# Altium integrated library Renesas Diode.IntLib: 1609 symbols (part 12 of 31)
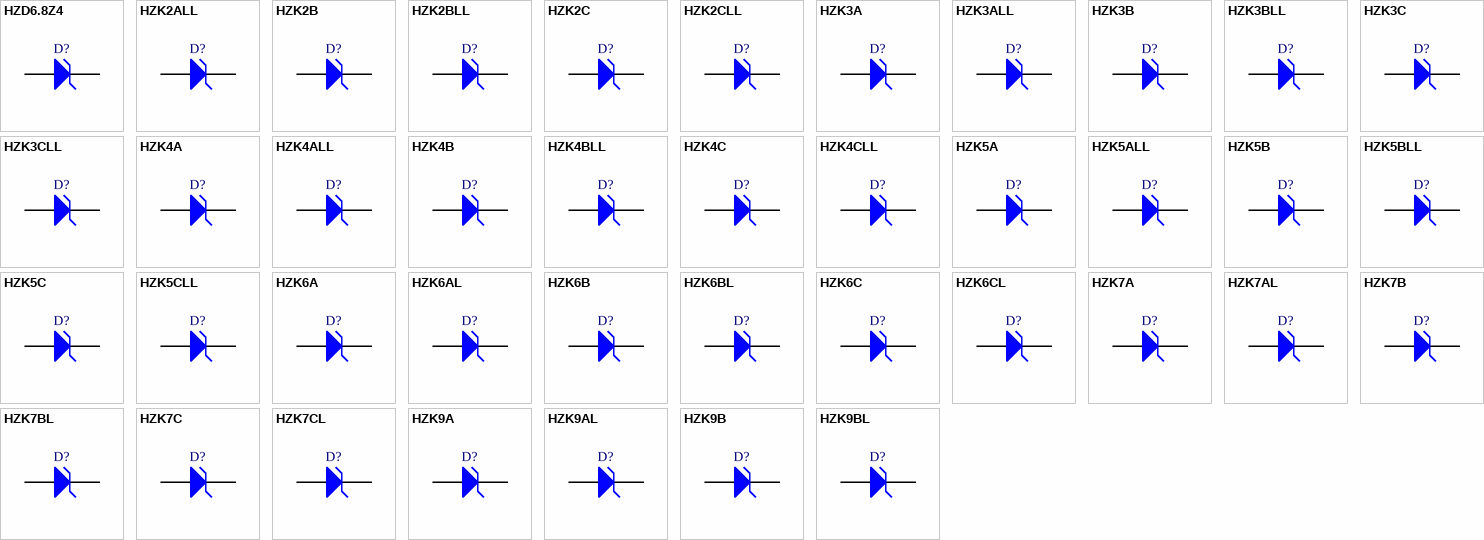
[diagram p56: symbols HZD6.8Z4 to HZK9BL]

## HZK9AL
designator D?
Silicon Epitaxial Planar Zener Diodes for Stabilized Power Supply; Published: 12-Feb-2010; DatasheetVersion: Rev.3.00, May-2003; PackageVersion: Aug-2005; PackageReference: GLZZ0002ZA-A; Publisher: Altium Limited; PackageDescription: Metal Electrode Face (MELF) Diode; Body 3.5 x 1.35 mm (LxDia); ComponentLink1Description: Manufacturer Link; ComponentLink1URL: http://sg.renesas.com/fmwk.jsp?cnt=diode_landing.jsp&fp=/products/discrete/diodes/; ComponentLink2Description: Datasheet; ComponentLink2URL: http://documentation.renesas.com/eng/products/diode/rej03g0019_hzk_l.pdf; ComponentLink3Description: Packaging Specification; ComponentLink3URL: http://sg.renesas.com/media/products/common_info/package/pdf/diode/code/glzz0002za_a.pdf
footprint GLZZ0002ZA-A (Metal Electrode Face (MELF) Diode; Body 3.5 x 1.35 mm (LxDia))
signal-integrity model HZK9AL
pins: 1 K, 2 A

## HZK9B
designator D?
Silicon Epitaxial Planar Zener Diodes for Stabilized Power Supply; Published: 12-Feb-2010; DatasheetVersion: Rev.3.00, May-2003; PackageVersion: Aug-2005; PackageReference: GLZZ0002ZA-A; Publisher: Altium Limited; PackageDescription: Metal Electrode Face (MELF) Diode; Body 3.5 x 1.35 mm (LxDia); ComponentLink1Description: Manufacturer Link; ComponentLink1URL: http://sg.renesas.com/fmwk.jsp?cnt=diode_landing.jsp&fp=/products/discrete/diodes/; ComponentLink2Description: Datasheet; ComponentLink2URL: http://documentation.renesas.com/eng/products/diode/rej03g0018_hzk.pdf; ComponentLink3Description: Packaging Specification; ComponentLink3URL: http://sg.renesas.com/media/products/common_info/package/pdf/diode/code/glzz0002za_a.pdf
footprint GLZZ0002ZA-A (Metal Electrode Face (MELF) Diode; Body 3.5 x 1.35 mm (LxDia))
signal-integrity model HZK9B
pins: 1 K, 2 A

## HZK9BL
designator D?
Silicon Epitaxial Planar Zener Diodes for Stabilized Power Supply; Published: 12-Feb-2010; DatasheetVersion: Rev.3.00, May-2003; PackageVersion: Aug-2005; PackageReference: GLZZ0002ZA-A; Publisher: Altium Limited; PackageDescription: Metal Electrode Face (MELF) Diode; Body 3.5 x 1.35 mm (LxDia); ComponentLink1Description: Manufacturer Link; ComponentLink1URL: http://sg.renesas.com/fmwk.jsp?cnt=diode_landing.jsp&fp=/products/discrete/diodes/; ComponentLink2Description: Datasheet; ComponentLink2URL: http://documentation.renesas.com/eng/products/diode/rej03g0019_hzk_l.pdf; ComponentLink3Description: Packaging Specification; ComponentLink3URL: http://sg.renesas.com/media/products/common_info/package/pdf/diode/code/glzz0002za_a.pdf
footprint GLZZ0002ZA-A (Metal Electrode Face (MELF) Diode; Body 3.5 x 1.35 mm (LxDia))
signal-integrity model HZK9BL
pins: 1 K, 2 A

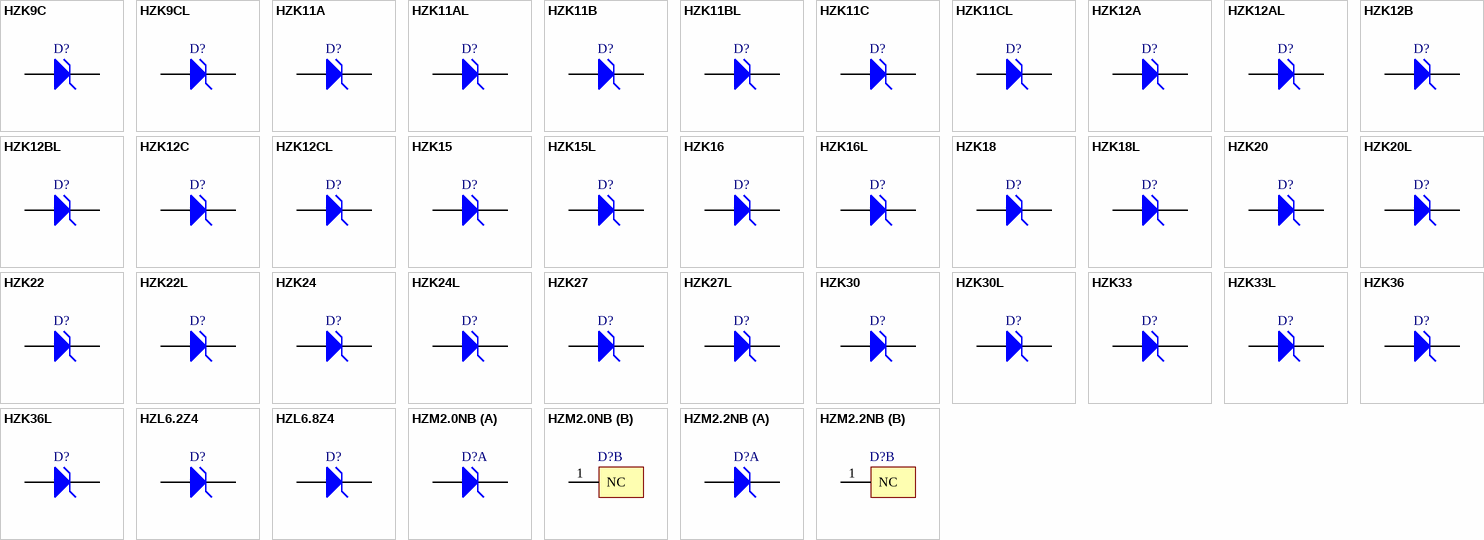
[diagram p15: symbols HZK9C to HZM2.2NB]

## HZK9C
designator D?
Silicon Epitaxial Planar Zener Diodes for Stabilized Power Supply; Published: 12-Feb-2010; DatasheetVersion: Rev.3.00, May-2003; PackageVersion: Aug-2005; PackageReference: GLZZ0002ZA-A; Publisher: Altium Limited; PackageDescription: Metal Electrode Face (MELF) Diode; Body 3.5 x 1.35 mm (LxDia); ComponentLink1Description: Manufacturer Link; ComponentLink1URL: http://sg.renesas.com/fmwk.jsp?cnt=diode_landing.jsp&fp=/products/discrete/diodes/; ComponentLink2Description: Datasheet; ComponentLink2URL: http://documentation.renesas.com/eng/products/diode/rej03g0018_hzk.pdf; ComponentLink3Description: Packaging Specification; ComponentLink3URL: http://sg.renesas.com/media/products/common_info/package/pdf/diode/code/glzz0002za_a.pdf
footprint GLZZ0002ZA-A (Metal Electrode Face (MELF) Diode; Body 3.5 x 1.35 mm (LxDia))
signal-integrity model HZK9C
pins: 1 K, 2 A

## HZK9CL
designator D?
Silicon Epitaxial Planar Zener Diodes for Stabilized Power Supply; Published: 12-Feb-2010; DatasheetVersion: Rev.3.00, May-2003; PackageVersion: Aug-2005; PackageReference: GLZZ0002ZA-A; Publisher: Altium Limited; PackageDescription: Metal Electrode Face (MELF) Diode; Body 3.5 x 1.35 mm (LxDia); ComponentLink1Description: Manufacturer Link; ComponentLink1URL: http://sg.renesas.com/fmwk.jsp?cnt=diode_landing.jsp&fp=/products/discrete/diodes/; ComponentLink2Description: Datasheet; ComponentLink2URL: http://documentation.renesas.com/eng/products/diode/rej03g0019_hzk_l.pdf; ComponentLink3Description: Packaging Specification; ComponentLink3URL: http://sg.renesas.com/media/products/common_info/package/pdf/diode/code/glzz0002za_a.pdf
footprint GLZZ0002ZA-A (Metal Electrode Face (MELF) Diode; Body 3.5 x 1.35 mm (LxDia))
signal-integrity model HZK9CL
pins: 1 K, 2 A

## HZK11A
designator D?
Silicon Epitaxial Planar Zener Diodes for Stabilized Power Supply; Published: 12-Feb-2010; DatasheetVersion: Rev.3.00, May-2003; PackageVersion: Aug-2005; PackageReference: GLZZ0002ZA-A; Publisher: Altium Limited; PackageDescription: Metal Electrode Face (MELF) Diode; Body 3.5 x 1.35 mm (LxDia); ComponentLink1Description: Manufacturer Link; ComponentLink1URL: http://sg.renesas.com/fmwk.jsp?cnt=diode_landing.jsp&fp=/products/discrete/diodes/; ComponentLink2Description: Datasheet; ComponentLink2URL: http://documentation.renesas.com/eng/products/diode/rej03g0018_hzk.pdf; ComponentLink3Description: Packaging Specification; ComponentLink3URL: http://sg.renesas.com/media/products/common_info/package/pdf/diode/code/glzz0002za_a.pdf
footprint GLZZ0002ZA-A (Metal Electrode Face (MELF) Diode; Body 3.5 x 1.35 mm (LxDia))
signal-integrity model HZK11A
pins: 1 K, 2 A

## HZK11AL
designator D?
Silicon Epitaxial Planar Zener Diodes for Stabilized Power Supply; Published: 12-Feb-2010; DatasheetVersion: Rev.3.00, May-2003; PackageVersion: Aug-2005; PackageReference: GLZZ0002ZA-A; Publisher: Altium Limited; PackageDescription: Metal Electrode Face (MELF) Diode; Body 3.5 x 1.35 mm (LxDia); ComponentLink1Description: Manufacturer Link; ComponentLink1URL: http://sg.renesas.com/fmwk.jsp?cnt=diode_landing.jsp&fp=/products/discrete/diodes/; ComponentLink2Description: Datasheet; ComponentLink2URL: http://documentation.renesas.com/eng/products/diode/rej03g0019_hzk_l.pdf; ComponentLink3Description: Packaging Specification; ComponentLink3URL: http://sg.renesas.com/media/products/common_info/package/pdf/diode/code/glzz0002za_a.pdf
footprint GLZZ0002ZA-A (Metal Electrode Face (MELF) Diode; Body 3.5 x 1.35 mm (LxDia))
signal-integrity model HZK11AL
pins: 1 K, 2 A

## HZK11B
designator D?
Silicon Epitaxial Planar Zener Diodes for Stabilized Power Supply; Published: 12-Feb-2010; DatasheetVersion: Rev.3.00, May-2003; PackageVersion: Aug-2005; PackageReference: GLZZ0002ZA-A; Publisher: Altium Limited; PackageDescription: Metal Electrode Face (MELF) Diode; Body 3.5 x 1.35 mm (LxDia); ComponentLink1Description: Manufacturer Link; ComponentLink1URL: http://sg.renesas.com/fmwk.jsp?cnt=diode_landing.jsp&fp=/products/discrete/diodes/; ComponentLink2Description: Datasheet; ComponentLink2URL: http://documentation.renesas.com/eng/products/diode/rej03g0018_hzk.pdf; ComponentLink3Description: Packaging Specification; ComponentLink3URL: http://sg.renesas.com/media/products/common_info/package/pdf/diode/code/glzz0002za_a.pdf
footprint GLZZ0002ZA-A (Metal Electrode Face (MELF) Diode; Body 3.5 x 1.35 mm (LxDia))
signal-integrity model HZK11B
pins: 1 K, 2 A

## HZK11BL
designator D?
Silicon Epitaxial Planar Zener Diodes for Stabilized Power Supply; Published: 12-Feb-2010; DatasheetVersion: Rev.3.00, May-2003; PackageVersion: Aug-2005; PackageReference: GLZZ0002ZA-A; Publisher: Altium Limited; PackageDescription: Metal Electrode Face (MELF) Diode; Body 3.5 x 1.35 mm (LxDia); ComponentLink1Description: Manufacturer Link; ComponentLink1URL: http://sg.renesas.com/fmwk.jsp?cnt=diode_landing.jsp&fp=/products/discrete/diodes/; ComponentLink2Description: Datasheet; ComponentLink2URL: http://documentation.renesas.com/eng/products/diode/rej03g0019_hzk_l.pdf; ComponentLink3Description: Packaging Specification; ComponentLink3URL: http://sg.renesas.com/media/products/common_info/package/pdf/diode/code/glzz0002za_a.pdf
footprint GLZZ0002ZA-A (Metal Electrode Face (MELF) Diode; Body 3.5 x 1.35 mm (LxDia))
signal-integrity model HZK11BL
pins: 1 K, 2 A

## HZK11C
designator D?
Silicon Epitaxial Planar Zener Diodes for Stabilized Power Supply; Published: 12-Feb-2010; DatasheetVersion: Rev.3.00, May-2003; PackageVersion: Aug-2005; PackageReference: GLZZ0002ZA-A; Publisher: Altium Limited; PackageDescription: Metal Electrode Face (MELF) Diode; Body 3.5 x 1.35 mm (LxDia); ComponentLink1Description: Manufacturer Link; ComponentLink1URL: http://sg.renesas.com/fmwk.jsp?cnt=diode_landing.jsp&fp=/products/discrete/diodes/; ComponentLink2Description: Datasheet; ComponentLink2URL: http://documentation.renesas.com/eng/products/diode/rej03g0018_hzk.pdf; ComponentLink3Description: Packaging Specification; ComponentLink3URL: http://sg.renesas.com/media/products/common_info/package/pdf/diode/code/glzz0002za_a.pdf
footprint GLZZ0002ZA-A (Metal Electrode Face (MELF) Diode; Body 3.5 x 1.35 mm (LxDia))
signal-integrity model HZK11C
pins: 1 K, 2 A

## HZK11CL
designator D?
Silicon Epitaxial Planar Zener Diodes for Stabilized Power Supply; Published: 12-Feb-2010; DatasheetVersion: Rev.3.00, May-2003; PackageVersion: Aug-2005; PackageReference: GLZZ0002ZA-A; Publisher: Altium Limited; PackageDescription: Metal Electrode Face (MELF) Diode; Body 3.5 x 1.35 mm (LxDia); ComponentLink1Description: Manufacturer Link; ComponentLink1URL: http://sg.renesas.com/fmwk.jsp?cnt=diode_landing.jsp&fp=/products/discrete/diodes/; ComponentLink2Description: Datasheet; ComponentLink2URL: http://documentation.renesas.com/eng/products/diode/rej03g0019_hzk_l.pdf; ComponentLink3Description: Packaging Specification; ComponentLink3URL: http://sg.renesas.com/media/products/common_info/package/pdf/diode/code/glzz0002za_a.pdf
footprint GLZZ0002ZA-A (Metal Electrode Face (MELF) Diode; Body 3.5 x 1.35 mm (LxDia))
signal-integrity model HZK11CL
pins: 1 K, 2 A

## HZK12A
designator D?
Silicon Epitaxial Planar Zener Diodes for Stabilized Power Supply; Published: 12-Feb-2010; DatasheetVersion: Rev.3.00, May-2003; PackageVersion: Aug-2005; PackageReference: GLZZ0002ZA-A; Publisher: Altium Limited; PackageDescription: Metal Electrode Face (MELF) Diode; Body 3.5 x 1.35 mm (LxDia); ComponentLink1Description: Manufacturer Link; ComponentLink1URL: http://sg.renesas.com/fmwk.jsp?cnt=diode_landing.jsp&fp=/products/discrete/diodes/; ComponentLink2Description: Datasheet; ComponentLink2URL: http://documentation.renesas.com/eng/products/diode/rej03g0018_hzk.pdf; ComponentLink3Description: Packaging Specification; ComponentLink3URL: http://sg.renesas.com/media/products/common_info/package/pdf/diode/code/glzz0002za_a.pdf
footprint GLZZ0002ZA-A (Metal Electrode Face (MELF) Diode; Body 3.5 x 1.35 mm (LxDia))
signal-integrity model HZK12A
pins: 1 K, 2 A

## HZK12AL
designator D?
Silicon Epitaxial Planar Zener Diodes for Stabilized Power Supply; Published: 12-Feb-2010; DatasheetVersion: Rev.3.00, May-2003; PackageVersion: Aug-2005; PackageReference: GLZZ0002ZA-A; Publisher: Altium Limited; PackageDescription: Metal Electrode Face (MELF) Diode; Body 3.5 x 1.35 mm (LxDia); ComponentLink1Description: Manufacturer Link; ComponentLink1URL: http://sg.renesas.com/fmwk.jsp?cnt=diode_landing.jsp&fp=/products/discrete/diodes/; ComponentLink2Description: Datasheet; ComponentLink2URL: http://documentation.renesas.com/eng/products/diode/rej03g0019_hzk_l.pdf; ComponentLink3Description: Packaging Specification; ComponentLink3URL: http://sg.renesas.com/media/products/common_info/package/pdf/diode/code/glzz0002za_a.pdf
footprint GLZZ0002ZA-A (Metal Electrode Face (MELF) Diode; Body 3.5 x 1.35 mm (LxDia))
signal-integrity model HZK12AL
pins: 1 K, 2 A

## HZK12B
designator D?
Silicon Epitaxial Planar Zener Diodes for Stabilized Power Supply; Published: 12-Feb-2010; DatasheetVersion: Rev.3.00, May-2003; PackageVersion: Aug-2005; PackageReference: GLZZ0002ZA-A; Publisher: Altium Limited; PackageDescription: Metal Electrode Face (MELF) Diode; Body 3.5 x 1.35 mm (LxDia); ComponentLink1Description: Manufacturer Link; ComponentLink1URL: http://sg.renesas.com/fmwk.jsp?cnt=diode_landing.jsp&fp=/products/discrete/diodes/; ComponentLink2Description: Datasheet; ComponentLink2URL: http://documentation.renesas.com/eng/products/diode/rej03g0018_hzk.pdf; ComponentLink3Description: Packaging Specification; ComponentLink3URL: http://sg.renesas.com/media/products/common_info/package/pdf/diode/code/glzz0002za_a.pdf
footprint GLZZ0002ZA-A (Metal Electrode Face (MELF) Diode; Body 3.5 x 1.35 mm (LxDia))
signal-integrity model HZK12B
pins: 1 K, 2 A

## HZK12BL
designator D?
Silicon Epitaxial Planar Zener Diodes for Stabilized Power Supply; Published: 12-Feb-2010; DatasheetVersion: Rev.3.00, May-2003; PackageVersion: Aug-2005; PackageReference: GLZZ0002ZA-A; Publisher: Altium Limited; PackageDescription: Metal Electrode Face (MELF) Diode; Body 3.5 x 1.35 mm (LxDia); ComponentLink1Description: Manufacturer Link; ComponentLink1URL: http://sg.renesas.com/fmwk.jsp?cnt=diode_landing.jsp&fp=/products/discrete/diodes/; ComponentLink2Description: Datasheet; ComponentLink2URL: http://documentation.renesas.com/eng/products/diode/rej03g0019_hzk_l.pdf; ComponentLink3Description: Packaging Specification; ComponentLink3URL: http://sg.renesas.com/media/products/common_info/package/pdf/diode/code/glzz0002za_a.pdf
footprint GLZZ0002ZA-A (Metal Electrode Face (MELF) Diode; Body 3.5 x 1.35 mm (LxDia))
signal-integrity model HZK12BL
pins: 1 K, 2 A

## HZK12C
designator D?
Silicon Epitaxial Planar Zener Diodes for Stabilized Power Supply; Published: 12-Feb-2010; DatasheetVersion: Rev.3.00, May-2003; PackageVersion: Aug-2005; PackageReference: GLZZ0002ZA-A; Publisher: Altium Limited; PackageDescription: Metal Electrode Face (MELF) Diode; Body 3.5 x 1.35 mm (LxDia); ComponentLink1Description: Manufacturer Link; ComponentLink1URL: http://sg.renesas.com/fmwk.jsp?cnt=diode_landing.jsp&fp=/products/discrete/diodes/; ComponentLink2Description: Datasheet; ComponentLink2URL: http://documentation.renesas.com/eng/products/diode/rej03g0018_hzk.pdf; ComponentLink3Description: Packaging Specification; ComponentLink3URL: http://sg.renesas.com/media/products/common_info/package/pdf/diode/code/glzz0002za_a.pdf
footprint GLZZ0002ZA-A (Metal Electrode Face (MELF) Diode; Body 3.5 x 1.35 mm (LxDia))
signal-integrity model HZK12C
pins: 1 K, 2 A

## HZK12CL
designator D?
Silicon Epitaxial Planar Zener Diodes for Stabilized Power Supply; Published: 12-Feb-2010; DatasheetVersion: Rev.3.00, May-2003; PackageVersion: Aug-2005; PackageReference: GLZZ0002ZA-A; Publisher: Altium Limited; PackageDescription: Metal Electrode Face (MELF) Diode; Body 3.5 x 1.35 mm (LxDia); ComponentLink1Description: Manufacturer Link; ComponentLink1URL: http://sg.renesas.com/fmwk.jsp?cnt=diode_landing.jsp&fp=/products/discrete/diodes/; ComponentLink2Description: Datasheet; ComponentLink2URL: http://documentation.renesas.com/eng/products/diode/rej03g0019_hzk_l.pdf; ComponentLink3Description: Packaging Specification; ComponentLink3URL: http://sg.renesas.com/media/products/common_info/package/pdf/diode/code/glzz0002za_a.pdf
footprint GLZZ0002ZA-A (Metal Electrode Face (MELF) Diode; Body 3.5 x 1.35 mm (LxDia))
signal-integrity model HZK12CL
pins: 1 K, 2 A

## HZK15
designator D?
Silicon Epitaxial Planar Zener Diodes for Stabilized Power Supply; Published: 12-Feb-2010; DatasheetVersion: Rev.3.00, May-2003; PackageVersion: Aug-2005; PackageReference: GLZZ0002ZA-A; Publisher: Altium Limited; PackageDescription: Metal Electrode Face (MELF) Diode; Body 3.5 x 1.35 mm (LxDia); ComponentLink1Description: Manufacturer Link; ComponentLink1URL: http://sg.renesas.com/fmwk.jsp?cnt=diode_landing.jsp&fp=/products/discrete/diodes/; ComponentLink2Description: Datasheet; ComponentLink2URL: http://documentation.renesas.com/eng/products/diode/rej03g0018_hzk.pdf; ComponentLink3Description: Packaging Specification; ComponentLink3URL: http://sg.renesas.com/media/products/common_info/package/pdf/diode/code/glzz0002za_a.pdf
footprint GLZZ0002ZA-A (Metal Electrode Face (MELF) Diode; Body 3.5 x 1.35 mm (LxDia))
signal-integrity model HZK15
pins: 1 K, 2 A

## HZK15L
designator D?
Silicon Epitaxial Planar Zener Diodes for Stabilized Power Supply; Published: 12-Feb-2010; DatasheetVersion: Rev.3.00, May-2003; PackageVersion: Aug-2005; PackageReference: GLZZ0002ZA-A; Publisher: Altium Limited; PackageDescription: Metal Electrode Face (MELF) Diode; Body 3.5 x 1.35 mm (LxDia); ComponentLink1Description: Manufacturer Link; ComponentLink1URL: http://sg.renesas.com/fmwk.jsp?cnt=diode_landing.jsp&fp=/products/discrete/diodes/; ComponentLink2Description: Datasheet; ComponentLink2URL: http://documentation.renesas.com/eng/products/diode/rej03g0019_hzk_l.pdf; ComponentLink3Description: Packaging Specification; ComponentLink3URL: http://sg.renesas.com/media/products/common_info/package/pdf/diode/code/glzz0002za_a.pdf
footprint GLZZ0002ZA-A (Metal Electrode Face (MELF) Diode; Body 3.5 x 1.35 mm (LxDia))
signal-integrity model HZK15L
pins: 1 K, 2 A

## HZK16
designator D?
Silicon Epitaxial Planar Zener Diodes for Stabilized Power Supply; Published: 12-Feb-2010; DatasheetVersion: Rev.3.00, May-2003; PackageVersion: Aug-2005; PackageReference: GLZZ0002ZA-A; Publisher: Altium Limited; PackageDescription: Metal Electrode Face (MELF) Diode; Body 3.5 x 1.35 mm (LxDia); ComponentLink1Description: Manufacturer Link; ComponentLink1URL: http://sg.renesas.com/fmwk.jsp?cnt=diode_landing.jsp&fp=/products/discrete/diodes/; ComponentLink2Description: Datasheet; ComponentLink2URL: http://documentation.renesas.com/eng/products/diode/rej03g0018_hzk.pdf; ComponentLink3Description: Packaging Specification; ComponentLink3URL: http://sg.renesas.com/media/products/common_info/package/pdf/diode/code/glzz0002za_a.pdf
footprint GLZZ0002ZA-A (Metal Electrode Face (MELF) Diode; Body 3.5 x 1.35 mm (LxDia))
signal-integrity model HZK16
pins: 1 K, 2 A

## HZK16L
designator D?
Silicon Epitaxial Planar Zener Diodes for Stabilized Power Supply; Published: 12-Feb-2010; DatasheetVersion: Rev.3.00, May-2003; PackageVersion: Aug-2005; PackageReference: GLZZ0002ZA-A; Publisher: Altium Limited; PackageDescription: Metal Electrode Face (MELF) Diode; Body 3.5 x 1.35 mm (LxDia); ComponentLink1Description: Manufacturer Link; ComponentLink1URL: http://sg.renesas.com/fmwk.jsp?cnt=diode_landing.jsp&fp=/products/discrete/diodes/; ComponentLink2Description: Datasheet; ComponentLink2URL: http://documentation.renesas.com/eng/products/diode/rej03g0019_hzk_l.pdf; ComponentLink3Description: Packaging Specification; ComponentLink3URL: http://sg.renesas.com/media/products/common_info/package/pdf/diode/code/glzz0002za_a.pdf
footprint GLZZ0002ZA-A (Metal Electrode Face (MELF) Diode; Body 3.5 x 1.35 mm (LxDia))
signal-integrity model HZK16L
pins: 1 K, 2 A

## HZK18
designator D?
Silicon Epitaxial Planar Zener Diodes for Stabilized Power Supply; Published: 12-Feb-2010; DatasheetVersion: Rev.3.00, May-2003; PackageVersion: Aug-2005; PackageReference: GLZZ0002ZA-A; Publisher: Altium Limited; PackageDescription: Metal Electrode Face (MELF) Diode; Body 3.5 x 1.35 mm (LxDia); ComponentLink1Description: Manufacturer Link; ComponentLink1URL: http://sg.renesas.com/fmwk.jsp?cnt=diode_landing.jsp&fp=/products/discrete/diodes/; ComponentLink2Description: Datasheet; ComponentLink2URL: http://documentation.renesas.com/eng/products/diode/rej03g0018_hzk.pdf; ComponentLink3Description: Packaging Specification; ComponentLink3URL: http://sg.renesas.com/media/products/common_info/package/pdf/diode/code/glzz0002za_a.pdf
footprint GLZZ0002ZA-A (Metal Electrode Face (MELF) Diode; Body 3.5 x 1.35 mm (LxDia))
signal-integrity model HZK18
pins: 1 K, 2 A

## HZK18L
designator D?
Silicon Epitaxial Planar Zener Diodes for Stabilized Power Supply; Published: 12-Feb-2010; DatasheetVersion: Rev.3.00, May-2003; PackageVersion: Aug-2005; PackageReference: GLZZ0002ZA-A; Publisher: Altium Limited; PackageDescription: Metal Electrode Face (MELF) Diode; Body 3.5 x 1.35 mm (LxDia); ComponentLink1Description: Manufacturer Link; ComponentLink1URL: http://sg.renesas.com/fmwk.jsp?cnt=diode_landing.jsp&fp=/products/discrete/diodes/; ComponentLink2Description: Datasheet; ComponentLink2URL: http://documentation.renesas.com/eng/products/diode/rej03g0019_hzk_l.pdf; ComponentLink3Description: Packaging Specification; ComponentLink3URL: http://sg.renesas.com/media/products/common_info/package/pdf/diode/code/glzz0002za_a.pdf
footprint GLZZ0002ZA-A (Metal Electrode Face (MELF) Diode; Body 3.5 x 1.35 mm (LxDia))
signal-integrity model HZK18L
pins: 1 K, 2 A

## HZK20
designator D?
Silicon Epitaxial Planar Zener Diodes for Stabilized Power Supply; Published: 12-Feb-2010; DatasheetVersion: Rev.3.00, May-2003; PackageVersion: Aug-2005; PackageReference: GLZZ0002ZA-A; Publisher: Altium Limited; PackageDescription: Metal Electrode Face (MELF) Diode; Body 3.5 x 1.35 mm (LxDia); ComponentLink1Description: Manufacturer Link; ComponentLink1URL: http://sg.renesas.com/fmwk.jsp?cnt=diode_landing.jsp&fp=/products/discrete/diodes/; ComponentLink2Description: Datasheet; ComponentLink2URL: http://documentation.renesas.com/eng/products/diode/rej03g0018_hzk.pdf; ComponentLink3Description: Packaging Specification; ComponentLink3URL: http://sg.renesas.com/media/products/common_info/package/pdf/diode/code/glzz0002za_a.pdf
footprint GLZZ0002ZA-A (Metal Electrode Face (MELF) Diode; Body 3.5 x 1.35 mm (LxDia))
signal-integrity model HZK20
pins: 1 K, 2 A

## HZK20L
designator D?
Silicon Epitaxial Planar Zener Diodes for Stabilized Power Supply; Published: 12-Feb-2010; DatasheetVersion: Rev.3.00, May-2003; PackageVersion: Aug-2005; PackageReference: GLZZ0002ZA-A; Publisher: Altium Limited; PackageDescription: Metal Electrode Face (MELF) Diode; Body 3.5 x 1.35 mm (LxDia); ComponentLink1Description: Manufacturer Link; ComponentLink1URL: http://sg.renesas.com/fmwk.jsp?cnt=diode_landing.jsp&fp=/products/discrete/diodes/; ComponentLink2Description: Datasheet; ComponentLink2URL: http://documentation.renesas.com/eng/products/diode/rej03g0019_hzk_l.pdf; ComponentLink3Description: Packaging Specification; ComponentLink3URL: http://sg.renesas.com/media/products/common_info/package/pdf/diode/code/glzz0002za_a.pdf
footprint GLZZ0002ZA-A (Metal Electrode Face (MELF) Diode; Body 3.5 x 1.35 mm (LxDia))
signal-integrity model HZK20L
pins: 1 K, 2 A

## HZK22
designator D?
Silicon Epitaxial Planar Zener Diodes for Stabilized Power Supply; Published: 12-Feb-2010; DatasheetVersion: Rev.3.00, May-2003; PackageVersion: Aug-2005; PackageReference: GLZZ0002ZA-A; Publisher: Altium Limited; PackageDescription: Metal Electrode Face (MELF) Diode; Body 3.5 x 1.35 mm (LxDia); ComponentLink1Description: Manufacturer Link; ComponentLink1URL: http://sg.renesas.com/fmwk.jsp?cnt=diode_landing.jsp&fp=/products/discrete/diodes/; ComponentLink2Description: Datasheet; ComponentLink2URL: http://documentation.renesas.com/eng/products/diode/rej03g0018_hzk.pdf; ComponentLink3Description: Packaging Specification; ComponentLink3URL: http://sg.renesas.com/media/products/common_info/package/pdf/diode/code/glzz0002za_a.pdf
footprint GLZZ0002ZA-A (Metal Electrode Face (MELF) Diode; Body 3.5 x 1.35 mm (LxDia))
signal-integrity model HZK22
pins: 1 K, 2 A

## HZK22L
designator D?
Silicon Epitaxial Planar Zener Diodes for Stabilized Power Supply; Published: 12-Feb-2010; DatasheetVersion: Rev.3.00, May-2003; PackageVersion: Aug-2005; PackageReference: GLZZ0002ZA-A; Publisher: Altium Limited; PackageDescription: Metal Electrode Face (MELF) Diode; Body 3.5 x 1.35 mm (LxDia); ComponentLink1Description: Manufacturer Link; ComponentLink1URL: http://sg.renesas.com/fmwk.jsp?cnt=diode_landing.jsp&fp=/products/discrete/diodes/; ComponentLink2Description: Datasheet; ComponentLink2URL: http://documentation.renesas.com/eng/products/diode/rej03g0019_hzk_l.pdf; ComponentLink3Description: Packaging Specification; ComponentLink3URL: http://sg.renesas.com/media/products/common_info/package/pdf/diode/code/glzz0002za_a.pdf
footprint GLZZ0002ZA-A (Metal Electrode Face (MELF) Diode; Body 3.5 x 1.35 mm (LxDia))
signal-integrity model HZK22L
pins: 1 K, 2 A

## HZK24
designator D?
Silicon Epitaxial Planar Zener Diodes for Stabilized Power Supply; Published: 12-Feb-2010; DatasheetVersion: Rev.3.00, May-2003; PackageVersion: Aug-2005; PackageReference: GLZZ0002ZA-A; Publisher: Altium Limited; PackageDescription: Metal Electrode Face (MELF) Diode; Body 3.5 x 1.35 mm (LxDia); ComponentLink1Description: Manufacturer Link; ComponentLink1URL: http://sg.renesas.com/fmwk.jsp?cnt=diode_landing.jsp&fp=/products/discrete/diodes/; ComponentLink2Description: Datasheet; ComponentLink2URL: http://documentation.renesas.com/eng/products/diode/rej03g0018_hzk.pdf; ComponentLink3Description: Packaging Specification; ComponentLink3URL: http://sg.renesas.com/media/products/common_info/package/pdf/diode/code/glzz0002za_a.pdf
footprint GLZZ0002ZA-A (Metal Electrode Face (MELF) Diode; Body 3.5 x 1.35 mm (LxDia))
signal-integrity model HZK24
pins: 1 K, 2 A

## HZK24L
designator D?
Silicon Epitaxial Planar Zener Diodes for Stabilized Power Supply; Published: 12-Feb-2010; DatasheetVersion: Rev.3.00, May-2003; PackageVersion: Aug-2005; PackageReference: GLZZ0002ZA-A; Publisher: Altium Limited; PackageDescription: Metal Electrode Face (MELF) Diode; Body 3.5 x 1.35 mm (LxDia); ComponentLink1Description: Manufacturer Link; ComponentLink1URL: http://sg.renesas.com/fmwk.jsp?cnt=diode_landing.jsp&fp=/products/discrete/diodes/; ComponentLink2Description: Datasheet; ComponentLink2URL: http://documentation.renesas.com/eng/products/diode/rej03g0019_hzk_l.pdf; ComponentLink3Description: Packaging Specification; ComponentLink3URL: http://sg.renesas.com/media/products/common_info/package/pdf/diode/code/glzz0002za_a.pdf
footprint GLZZ0002ZA-A (Metal Electrode Face (MELF) Diode; Body 3.5 x 1.35 mm (LxDia))
signal-integrity model HZK24L
pins: 1 K, 2 A

## HZK27
designator D?
Silicon Epitaxial Planar Zener Diodes for Stabilized Power Supply; Published: 12-Feb-2010; DatasheetVersion: Rev.3.00, May-2003; PackageVersion: Aug-2005; PackageReference: GLZZ0002ZA-A; Publisher: Altium Limited; PackageDescription: Metal Electrode Face (MELF) Diode; Body 3.5 x 1.35 mm (LxDia); ComponentLink1Description: Manufacturer Link; ComponentLink1URL: http://sg.renesas.com/fmwk.jsp?cnt=diode_landing.jsp&fp=/products/discrete/diodes/; ComponentLink2Description: Datasheet; ComponentLink2URL: http://documentation.renesas.com/eng/products/diode/rej03g0018_hzk.pdf; ComponentLink3Description: Packaging Specification; ComponentLink3URL: http://sg.renesas.com/media/products/common_info/package/pdf/diode/code/glzz0002za_a.pdf
footprint GLZZ0002ZA-A (Metal Electrode Face (MELF) Diode; Body 3.5 x 1.35 mm (LxDia))
signal-integrity model HZK27
pins: 1 K, 2 A

## HZK27L
designator D?
Silicon Epitaxial Planar Zener Diodes for Stabilized Power Supply; Published: 12-Feb-2010; DatasheetVersion: Rev.3.00, May-2003; PackageVersion: Aug-2005; PackageReference: GLZZ0002ZA-A; Publisher: Altium Limited; PackageDescription: Metal Electrode Face (MELF) Diode; Body 3.5 x 1.35 mm (LxDia); ComponentLink1Description: Manufacturer Link; ComponentLink1URL: http://sg.renesas.com/fmwk.jsp?cnt=diode_landing.jsp&fp=/products/discrete/diodes/; ComponentLink2Description: Datasheet; ComponentLink2URL: http://documentation.renesas.com/eng/products/diode/rej03g0019_hzk_l.pdf; ComponentLink3Description: Packaging Specification; ComponentLink3URL: http://sg.renesas.com/media/products/common_info/package/pdf/diode/code/glzz0002za_a.pdf
footprint GLZZ0002ZA-A (Metal Electrode Face (MELF) Diode; Body 3.5 x 1.35 mm (LxDia))
signal-integrity model HZK27L
pins: 1 K, 2 A

## HZK30
designator D?
Silicon Epitaxial Planar Zener Diodes for Stabilized Power Supply; Published: 12-Feb-2010; DatasheetVersion: Rev.3.00, May-2003; PackageVersion: Aug-2005; PackageReference: GLZZ0002ZA-A; Publisher: Altium Limited; PackageDescription: Metal Electrode Face (MELF) Diode; Body 3.5 x 1.35 mm (LxDia); ComponentLink1Description: Manufacturer Link; ComponentLink1URL: http://sg.renesas.com/fmwk.jsp?cnt=diode_landing.jsp&fp=/products/discrete/diodes/; ComponentLink2Description: Datasheet; ComponentLink2URL: http://documentation.renesas.com/eng/products/diode/rej03g0018_hzk.pdf; ComponentLink3Description: Packaging Specification; ComponentLink3URL: http://sg.renesas.com/media/products/common_info/package/pdf/diode/code/glzz0002za_a.pdf
footprint GLZZ0002ZA-A (Metal Electrode Face (MELF) Diode; Body 3.5 x 1.35 mm (LxDia))
signal-integrity model HZK30
pins: 1 K, 2 A

## HZK30L
designator D?
Silicon Epitaxial Planar Zener Diodes for Stabilized Power Supply; Published: 12-Feb-2010; DatasheetVersion: Rev.3.00, May-2003; PackageVersion: Aug-2005; PackageReference: GLZZ0002ZA-A; Publisher: Altium Limited; PackageDescription: Metal Electrode Face (MELF) Diode; Body 3.5 x 1.35 mm (LxDia); ComponentLink1Description: Manufacturer Link; ComponentLink1URL: http://sg.renesas.com/fmwk.jsp?cnt=diode_landing.jsp&fp=/products/discrete/diodes/; ComponentLink2Description: Datasheet; ComponentLink2URL: http://documentation.renesas.com/eng/products/diode/rej03g0019_hzk_l.pdf; ComponentLink3Description: Packaging Specification; ComponentLink3URL: http://sg.renesas.com/media/products/common_info/package/pdf/diode/code/glzz0002za_a.pdf
footprint GLZZ0002ZA-A (Metal Electrode Face (MELF) Diode; Body 3.5 x 1.35 mm (LxDia))
signal-integrity model HZK30L
pins: 1 K, 2 A

## HZK33
designator D?
Silicon Epitaxial Planar Zener Diodes for Stabilized Power Supply; Published: 12-Feb-2010; DatasheetVersion: Rev.3.00, May-2003; PackageVersion: Aug-2005; PackageReference: GLZZ0002ZA-A; Publisher: Altium Limited; PackageDescription: Metal Electrode Face (MELF) Diode; Body 3.5 x 1.35 mm (LxDia); ComponentLink1Description: Manufacturer Link; ComponentLink1URL: http://sg.renesas.com/fmwk.jsp?cnt=diode_landing.jsp&fp=/products/discrete/diodes/; ComponentLink2Description: Datasheet; ComponentLink2URL: http://documentation.renesas.com/eng/products/diode/rej03g0018_hzk.pdf; ComponentLink3Description: Packaging Specification; ComponentLink3URL: http://sg.renesas.com/media/products/common_info/package/pdf/diode/code/glzz0002za_a.pdf
footprint GLZZ0002ZA-A (Metal Electrode Face (MELF) Diode; Body 3.5 x 1.35 mm (LxDia))
signal-integrity model HZK33
pins: 1 K, 2 A

## HZK33L
designator D?
Silicon Epitaxial Planar Zener Diodes for Stabilized Power Supply; Published: 12-Feb-2010; DatasheetVersion: Rev.3.00, May-2003; PackageVersion: Aug-2005; PackageReference: GLZZ0002ZA-A; Publisher: Altium Limited; PackageDescription: Metal Electrode Face (MELF) Diode; Body 3.5 x 1.35 mm (LxDia); ComponentLink1Description: Manufacturer Link; ComponentLink1URL: http://sg.renesas.com/fmwk.jsp?cnt=diode_landing.jsp&fp=/products/discrete/diodes/; ComponentLink2Description: Datasheet; ComponentLink2URL: http://documentation.renesas.com/eng/products/diode/rej03g0019_hzk_l.pdf; ComponentLink3Description: Packaging Specification; ComponentLink3URL: http://sg.renesas.com/media/products/common_info/package/pdf/diode/code/glzz0002za_a.pdf
footprint GLZZ0002ZA-A (Metal Electrode Face (MELF) Diode; Body 3.5 x 1.35 mm (LxDia))
signal-integrity model HZK33L
pins: 1 K, 2 A

## HZK36
designator D?
Silicon Epitaxial Planar Zener Diodes for Stabilized Power Supply; Published: 12-Feb-2010; DatasheetVersion: Rev.3.00, May-2003; PackageVersion: Aug-2005; PackageReference: GLZZ0002ZA-A; Publisher: Altium Limited; PackageDescription: Metal Electrode Face (MELF) Diode; Body 3.5 x 1.35 mm (LxDia); ComponentLink1Description: Manufacturer Link; ComponentLink1URL: http://sg.renesas.com/fmwk.jsp?cnt=diode_landing.jsp&fp=/products/discrete/diodes/; ComponentLink2Description: Datasheet; ComponentLink2URL: http://documentation.renesas.com/eng/products/diode/rej03g0018_hzk.pdf; ComponentLink3Description: Packaging Specification; ComponentLink3URL: http://sg.renesas.com/media/products/common_info/package/pdf/diode/code/glzz0002za_a.pdf
footprint GLZZ0002ZA-A (Metal Electrode Face (MELF) Diode; Body 3.5 x 1.35 mm (LxDia))
signal-integrity model HZK36
pins: 1 K, 2 A

## HZK36L
designator D?
Silicon Epitaxial Planar Zener Diodes for Stabilized Power Supply; Published: 12-Feb-2010; DatasheetVersion: Rev.3.00, May-2003; PackageVersion: Aug-2005; PackageReference: GLZZ0002ZA-A; Publisher: Altium Limited; PackageDescription: Metal Electrode Face (MELF) Diode; Body 3.5 x 1.35 mm (LxDia); ComponentLink1Description: Manufacturer Link; ComponentLink1URL: http://sg.renesas.com/fmwk.jsp?cnt=diode_landing.jsp&fp=/products/discrete/diodes/; ComponentLink2Description: Datasheet; ComponentLink2URL: http://documentation.renesas.com/eng/products/diode/rej03g0019_hzk_l.pdf; ComponentLink3Description: Packaging Specification; ComponentLink3URL: http://sg.renesas.com/media/products/common_info/package/pdf/diode/code/glzz0002za_a.pdf
footprint GLZZ0002ZA-A (Metal Electrode Face (MELF) Diode; Body 3.5 x 1.35 mm (LxDia))
signal-integrity model HZK36L
pins: 1 K, 2 A

## HZL6.2Z4
designator D?
Silicon Planar Zener Diode for Surge Absorb; Published: 12-Feb-2010; DatasheetVersion: Rev.1.00, Oct-2004; PackageVersion: Oct-2006; PackageReference: PXSF0002ZA-A; Publisher: Altium Limited; PackageDescription: 2-Pin Plastic Small Outline Diode, Flat Leads, Body 0.6 x 0.8 mm (EFP); ComponentLink1Description: Manufacturer Link; ComponentLink1URL: http://sg.renesas.com/fmwk.jsp?cnt=diode_landing.jsp&fp=/products/discrete/diodes/; ComponentLink2Description: Datasheet; ComponentLink2URL: http://documentation.renesas.com/eng/products/diode/rej03g0409_hzl62z4.pdf; ComponentLink3Description: Packaging Specification; ComponentLink3URL: http://sg.renesas.com/media/products/common_info/package/pdf/diode/code/pxsf0002za_a.pdf
footprint PXSF0002ZA-A (SOD, 2-Flat Leads, Body 0.6x0.8x0.5mm, Renesas Recommended)
signal-integrity model HZL6.2Z4
pins: 1 K, 2 A

## HZL6.8Z4
designator D?
Silicon Planar Zener Diode for Surge Absorb; Published: 12-Feb-2010; DatasheetVersion: Rev.1.00, Oct-2004; PackageVersion: Oct-2006; PackageReference: PXSF0002ZA-A; Publisher: Altium Limited; PackageDescription: 2-Pin Plastic Small Outline Diode, Flat Leads, Body 0.6 x 0.8 mm (EFP); ComponentLink1Description: Manufacturer Link; ComponentLink1URL: http://sg.renesas.com/fmwk.jsp?cnt=diode_landing.jsp&fp=/products/discrete/diodes/; ComponentLink2Description: Datasheet; ComponentLink2URL: http://documentation.renesas.com/eng/products/diode/rej03g0410_hzl68z4.pdf; ComponentLink3Description: Packaging Specification; ComponentLink3URL: http://sg.renesas.com/media/products/common_info/package/pdf/diode/code/pxsf0002za_a.pdf
footprint PXSF0002ZA-A (SOD, 2-Flat Leads, Body 0.6x0.8x0.5mm, Renesas Recommended)
signal-integrity model HZL6.8Z4
pins: 1 K, 2 A

## HZM2.0NB
designator D?
Silicon Epitaxial Planar Zener Diode for Stabilizer; Published: 12-Feb-2010; DatasheetVersion: Rev.5.00, Dec-2004; PackageVersion: Aug-2005; PackageReference: PLSP0003ZC-A; Publisher: Altium Limited; PackageDescription: 3-Pin Plastic SOT-23 Package 0.95 mm Pitch, 2.8 mm Lead Span - Alternate Lead Configuration (MPAK); Code_JEITA: SC-59A; ComponentLink1Description: Manufacturer Link; ComponentLink1URL: http://sg.renesas.com/fmwk.jsp?cnt=diode_landing.jsp&fp=/products/discrete/diodes/; ComponentLink2Description: Datasheet; ComponentLink2URL: http://documentation.renesas.com/eng/products/diode/rej03g0483_hzm_n.pdf; ComponentLink3Description: Packaging Specification; ComponentLink3URL: http://sg.renesas.com/media/products/common_info/package/pdf/diode/code/plsp0003zc_a.pdf
footprint PLSP0003ZC-A_N (SOT23, 3-Leads, Body 2.9x1.5mm, Pitch 0.95mm, Lead Span 2.8mm - Alternate Lead Configuration, IPC Medium Density)
footprint PLSP0003ZC-A_L (SOT23, 3-Leads, Body 2.9x1.5mm, Pitch 0.95mm, Lead Span 2.8mm - Alternate Lead Configuration, IPC High Density)
footprint PLSP0003ZC-A_M (SOT23, 3-Leads, Body 2.9x1.5mm, Pitch 0.95mm, Lead Span 2.8mm - Alternate Lead Configuration, IPC Low Density)
signal-integrity model HZM2.0NB
part A pins: 2 A, 3 K
part B pins: 1 NC

## HZM2.2NB
designator D?
Silicon Epitaxial Planar Zener Diode for Stabilizer; Published: 12-Feb-2010; DatasheetVersion: Rev.5.00, Dec-2004; PackageVersion: Aug-2005; PackageReference: PLSP0003ZC-A; Publisher: Altium Limited; PackageDescription: 3-Pin Plastic SOT-23 Package 0.95 mm Pitch, 2.8 mm Lead Span - Alternate Lead Configuration (MPAK); Code_JEITA: SC-59A; ComponentLink1Description: Manufacturer Link; ComponentLink1URL: http://sg.renesas.com/fmwk.jsp?cnt=diode_landing.jsp&fp=/products/discrete/diodes/; ComponentLink2Description: Datasheet; ComponentLink2URL: http://documentation.renesas.com/eng/products/diode/rej03g0483_hzm_n.pdf; ComponentLink3Description: Packaging Specification; ComponentLink3URL: http://sg.renesas.com/media/products/common_info/package/pdf/diode/code/plsp0003zc_a.pdf
footprint PLSP0003ZC-A_N (SOT23, 3-Leads, Body 2.9x1.5mm, Pitch 0.95mm, Lead Span 2.8mm - Alternate Lead Configuration, IPC Medium Density)
footprint PLSP0003ZC-A_L (SOT23, 3-Leads, Body 2.9x1.5mm, Pitch 0.95mm, Lead Span 2.8mm - Alternate Lead Configuration, IPC High Density)
footprint PLSP0003ZC-A_M (SOT23, 3-Leads, Body 2.9x1.5mm, Pitch 0.95mm, Lead Span 2.8mm - Alternate Lead Configuration, IPC Low Density)
signal-integrity model HZM2.2NB
part A pins: 2 A, 3 K
part B pins: 1 NC

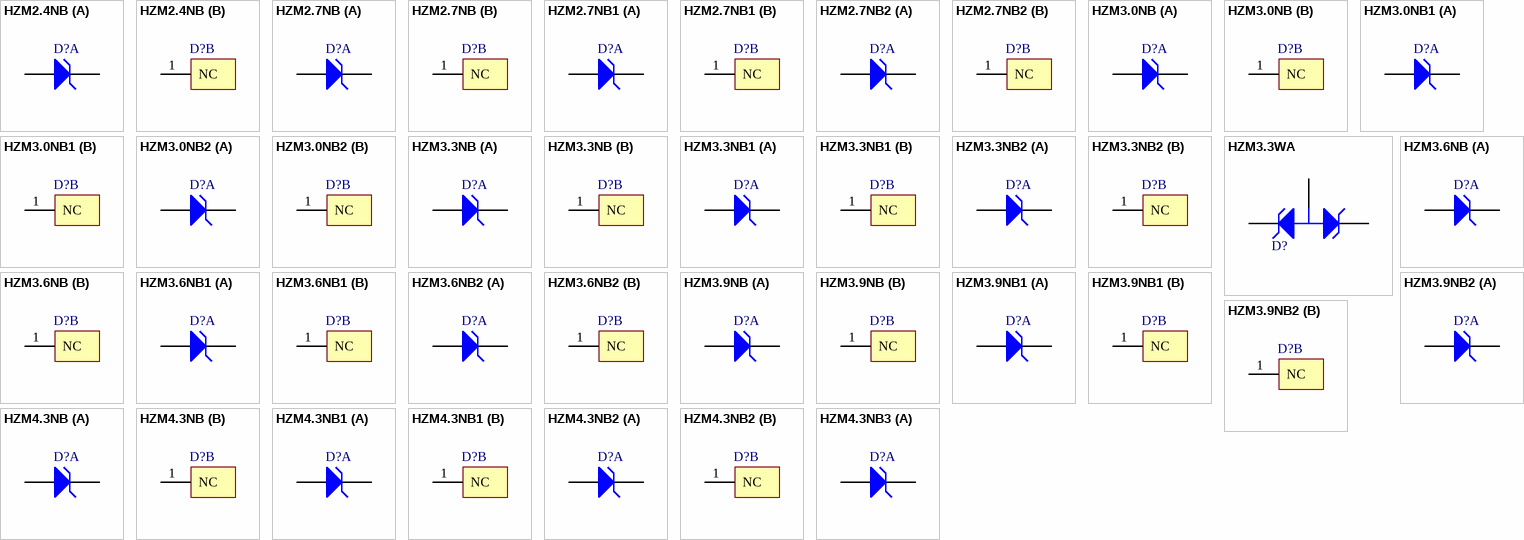
[diagram p16: symbols HZM2.4NB to HZM4.3NB3]

## HZM2.4NB
designator D?
Silicon Epitaxial Planar Zener Diode for Stabilizer; Published: 12-Feb-2010; DatasheetVersion: Rev.5.00, Dec-2004; PackageVersion: Aug-2005; PackageReference: PLSP0003ZC-A; Publisher: Altium Limited; PackageDescription: 3-Pin Plastic SOT-23 Package 0.95 mm Pitch, 2.8 mm Lead Span - Alternate Lead Configuration (MPAK); Code_JEITA: SC-59A; ComponentLink1Description: Manufacturer Link; ComponentLink1URL: http://sg.renesas.com/fmwk.jsp?cnt=diode_landing.jsp&fp=/products/discrete/diodes/; ComponentLink2Description: Datasheet; ComponentLink2URL: http://documentation.renesas.com/eng/products/diode/rej03g0483_hzm_n.pdf; ComponentLink3Description: Packaging Specification; ComponentLink3URL: http://sg.renesas.com/media/products/common_info/package/pdf/diode/code/plsp0003zc_a.pdf
footprint PLSP0003ZC-A_N (SOT23, 3-Leads, Body 2.9x1.5mm, Pitch 0.95mm, Lead Span 2.8mm - Alternate Lead Configuration, IPC Medium Density)
footprint PLSP0003ZC-A_L (SOT23, 3-Leads, Body 2.9x1.5mm, Pitch 0.95mm, Lead Span 2.8mm - Alternate Lead Configuration, IPC High Density)
footprint PLSP0003ZC-A_M (SOT23, 3-Leads, Body 2.9x1.5mm, Pitch 0.95mm, Lead Span 2.8mm - Alternate Lead Configuration, IPC Low Density)
signal-integrity model HZM2.4NB
part A pins: 2 A, 3 K
part B pins: 1 NC

## HZM2.7NB
designator D?
Silicon Epitaxial Planar Zener Diode for Stabilizer; Published: 12-Feb-2010; DatasheetVersion: Rev.5.00, Dec-2004; PackageVersion: Aug-2005; PackageReference: PLSP0003ZC-A; Publisher: Altium Limited; PackageDescription: 3-Pin Plastic SOT-23 Package 0.95 mm Pitch, 2.8 mm Lead Span - Alternate Lead Configuration (MPAK); Code_JEITA: SC-59A; ComponentLink1Description: Manufacturer Link; ComponentLink1URL: http://sg.renesas.com/fmwk.jsp?cnt=diode_landing.jsp&fp=/products/discrete/diodes/; ComponentLink2Description: Datasheet; ComponentLink2URL: http://documentation.renesas.com/eng/products/diode/rej03g0483_hzm_n.pdf; ComponentLink3Description: Packaging Specification; ComponentLink3URL: http://sg.renesas.com/media/products/common_info/package/pdf/diode/code/plsp0003zc_a.pdf
footprint PLSP0003ZC-A_N (SOT23, 3-Leads, Body 2.9x1.5mm, Pitch 0.95mm, Lead Span 2.8mm - Alternate Lead Configuration, IPC Medium Density)
footprint PLSP0003ZC-A_L (SOT23, 3-Leads, Body 2.9x1.5mm, Pitch 0.95mm, Lead Span 2.8mm - Alternate Lead Configuration, IPC High Density)
footprint PLSP0003ZC-A_M (SOT23, 3-Leads, Body 2.9x1.5mm, Pitch 0.95mm, Lead Span 2.8mm - Alternate Lead Configuration, IPC Low Density)
signal-integrity model HZM2.7NB
part A pins: 2 A, 3 K
part B pins: 1 NC

## HZM2.7NB1
designator D?
Silicon Epitaxial Planar Zener Diode for Stabilizer; Published: 12-Feb-2010; DatasheetVersion: Rev.5.00, Dec-2004; PackageVersion: Aug-2005; PackageReference: PLSP0003ZC-A; Publisher: Altium Limited; PackageDescription: 3-Pin Plastic SOT-23 Package 0.95 mm Pitch, 2.8 mm Lead Span - Alternate Lead Configuration (MPAK); Code_JEITA: SC-59A; ComponentLink1Description: Manufacturer Link; ComponentLink1URL: http://sg.renesas.com/fmwk.jsp?cnt=diode_landing.jsp&fp=/products/discrete/diodes/; ComponentLink2Description: Datasheet; ComponentLink2URL: http://documentation.renesas.com/eng/products/diode/rej03g0483_hzm_n.pdf; ComponentLink3Description: Packaging Specification; ComponentLink3URL: http://sg.renesas.com/media/products/common_info/package/pdf/diode/code/plsp0003zc_a.pdf
footprint PLSP0003ZC-A_N (SOT23, 3-Leads, Body 2.9x1.5mm, Pitch 0.95mm, Lead Span 2.8mm - Alternate Lead Configuration, IPC Medium Density)
footprint PLSP0003ZC-A_L (SOT23, 3-Leads, Body 2.9x1.5mm, Pitch 0.95mm, Lead Span 2.8mm - Alternate Lead Configuration, IPC High Density)
footprint PLSP0003ZC-A_M (SOT23, 3-Leads, Body 2.9x1.5mm, Pitch 0.95mm, Lead Span 2.8mm - Alternate Lead Configuration, IPC Low Density)
signal-integrity model HZM2.7NB1
part A pins: 2 A, 3 K
part B pins: 1 NC

## HZM2.7NB2
designator D?
Silicon Epitaxial Planar Zener Diode for Stabilizer; Published: 12-Feb-2010; DatasheetVersion: Rev.5.00, Dec-2004; PackageVersion: Aug-2005; PackageReference: PLSP0003ZC-A; Publisher: Altium Limited; PackageDescription: 3-Pin Plastic SOT-23 Package 0.95 mm Pitch, 2.8 mm Lead Span - Alternate Lead Configuration (MPAK); Code_JEITA: SC-59A; ComponentLink1Description: Manufacturer Link; ComponentLink1URL: http://sg.renesas.com/fmwk.jsp?cnt=diode_landing.jsp&fp=/products/discrete/diodes/; ComponentLink2Description: Datasheet; ComponentLink2URL: http://documentation.renesas.com/eng/products/diode/rej03g0483_hzm_n.pdf; ComponentLink3Description: Packaging Specification; ComponentLink3URL: http://sg.renesas.com/media/products/common_info/package/pdf/diode/code/plsp0003zc_a.pdf
footprint PLSP0003ZC-A_N (SOT23, 3-Leads, Body 2.9x1.5mm, Pitch 0.95mm, Lead Span 2.8mm - Alternate Lead Configuration, IPC Medium Density)
footprint PLSP0003ZC-A_L (SOT23, 3-Leads, Body 2.9x1.5mm, Pitch 0.95mm, Lead Span 2.8mm - Alternate Lead Configuration, IPC High Density)
footprint PLSP0003ZC-A_M (SOT23, 3-Leads, Body 2.9x1.5mm, Pitch 0.95mm, Lead Span 2.8mm - Alternate Lead Configuration, IPC Low Density)
signal-integrity model HZM2.7NB2
part A pins: 2 A, 3 K
part B pins: 1 NC

## HZM3.0NB
designator D?
Silicon Epitaxial Planar Zener Diode for Stabilizer; Published: 12-Feb-2010; DatasheetVersion: Rev.5.00, Dec-2004; PackageVersion: Aug-2005; PackageReference: PLSP0003ZC-A; Publisher: Altium Limited; PackageDescription: 3-Pin Plastic SOT-23 Package 0.95 mm Pitch, 2.8 mm Lead Span - Alternate Lead Configuration (MPAK); Code_JEITA: SC-59A; ComponentLink1Description: Manufacturer Link; ComponentLink1URL: http://sg.renesas.com/fmwk.jsp?cnt=diode_landing.jsp&fp=/products/discrete/diodes/; ComponentLink2Description: Datasheet; ComponentLink2URL: http://documentation.renesas.com/eng/products/diode/rej03g0483_hzm_n.pdf; ComponentLink3Description: Packaging Specification; ComponentLink3URL: http://sg.renesas.com/media/products/common_info/package/pdf/diode/code/plsp0003zc_a.pdf
footprint PLSP0003ZC-A_N (SOT23, 3-Leads, Body 2.9x1.5mm, Pitch 0.95mm, Lead Span 2.8mm - Alternate Lead Configuration, IPC Medium Density)
footprint PLSP0003ZC-A_L (SOT23, 3-Leads, Body 2.9x1.5mm, Pitch 0.95mm, Lead Span 2.8mm - Alternate Lead Configuration, IPC High Density)
footprint PLSP0003ZC-A_M (SOT23, 3-Leads, Body 2.9x1.5mm, Pitch 0.95mm, Lead Span 2.8mm - Alternate Lead Configuration, IPC Low Density)
signal-integrity model HZM3.0NB
part A pins: 2 A, 3 K
part B pins: 1 NC

## HZM3.0NB1
designator D?
Silicon Epitaxial Planar Zener Diode for Stabilizer; Published: 12-Feb-2010; DatasheetVersion: Rev.5.00, Dec-2004; PackageVersion: Aug-2005; PackageReference: PLSP0003ZC-A; Publisher: Altium Limited; PackageDescription: 3-Pin Plastic SOT-23 Package 0.95 mm Pitch, 2.8 mm Lead Span - Alternate Lead Configuration (MPAK); Code_JEITA: SC-59A; ComponentLink1Description: Manufacturer Link; ComponentLink1URL: http://sg.renesas.com/fmwk.jsp?cnt=diode_landing.jsp&fp=/products/discrete/diodes/; ComponentLink2Description: Datasheet; ComponentLink2URL: http://documentation.renesas.com/eng/products/diode/rej03g0483_hzm_n.pdf; ComponentLink3Description: Packaging Specification; ComponentLink3URL: http://sg.renesas.com/media/products/common_info/package/pdf/diode/code/plsp0003zc_a.pdf
footprint PLSP0003ZC-A_N (SOT23, 3-Leads, Body 2.9x1.5mm, Pitch 0.95mm, Lead Span 2.8mm - Alternate Lead Configuration, IPC Medium Density)
footprint PLSP0003ZC-A_L (SOT23, 3-Leads, Body 2.9x1.5mm, Pitch 0.95mm, Lead Span 2.8mm - Alternate Lead Configuration, IPC High Density)
footprint PLSP0003ZC-A_M (SOT23, 3-Leads, Body 2.9x1.5mm, Pitch 0.95mm, Lead Span 2.8mm - Alternate Lead Configuration, IPC Low Density)
signal-integrity model HZM3.0NB1
part A pins: 2 A, 3 K
part B pins: 1 NC

## HZM3.0NB2
designator D?
Silicon Epitaxial Planar Zener Diode for Stabilizer; Published: 12-Feb-2010; DatasheetVersion: Rev.5.00, Dec-2004; PackageVersion: Aug-2005; PackageReference: PLSP0003ZC-A; Publisher: Altium Limited; PackageDescription: 3-Pin Plastic SOT-23 Package 0.95 mm Pitch, 2.8 mm Lead Span - Alternate Lead Configuration (MPAK); Code_JEITA: SC-59A; ComponentLink1Description: Manufacturer Link; ComponentLink1URL: http://sg.renesas.com/fmwk.jsp?cnt=diode_landing.jsp&fp=/products/discrete/diodes/; ComponentLink2Description: Datasheet; ComponentLink2URL: http://documentation.renesas.com/eng/products/diode/rej03g0483_hzm_n.pdf; ComponentLink3Description: Packaging Specification; ComponentLink3URL: http://sg.renesas.com/media/products/common_info/package/pdf/diode/code/plsp0003zc_a.pdf
footprint PLSP0003ZC-A_N (SOT23, 3-Leads, Body 2.9x1.5mm, Pitch 0.95mm, Lead Span 2.8mm - Alternate Lead Configuration, IPC Medium Density)
footprint PLSP0003ZC-A_L (SOT23, 3-Leads, Body 2.9x1.5mm, Pitch 0.95mm, Lead Span 2.8mm - Alternate Lead Configuration, IPC High Density)
footprint PLSP0003ZC-A_M (SOT23, 3-Leads, Body 2.9x1.5mm, Pitch 0.95mm, Lead Span 2.8mm - Alternate Lead Configuration, IPC Low Density)
signal-integrity model HZM3.0NB2
part A pins: 2 A, 3 K
part B pins: 1 NC

## HZM3.3NB
designator D?
Silicon Epitaxial Planar Zener Diode for Stabilizer; Published: 12-Feb-2010; DatasheetVersion: Rev.5.00, Dec-2004; PackageVersion: Aug-2005; PackageReference: PLSP0003ZC-A; Publisher: Altium Limited; PackageDescription: 3-Pin Plastic SOT-23 Package 0.95 mm Pitch, 2.8 mm Lead Span - Alternate Lead Configuration (MPAK); Code_JEITA: SC-59A; ComponentLink1Description: Manufacturer Link; ComponentLink1URL: http://sg.renesas.com/fmwk.jsp?cnt=diode_landing.jsp&fp=/products/discrete/diodes/; ComponentLink2Description: Datasheet; ComponentLink2URL: http://documentation.renesas.com/eng/products/diode/rej03g0483_hzm_n.pdf; ComponentLink3Description: Packaging Specification; ComponentLink3URL: http://sg.renesas.com/media/products/common_info/package/pdf/diode/code/plsp0003zc_a.pdf
footprint PLSP0003ZC-A_N (SOT23, 3-Leads, Body 2.9x1.5mm, Pitch 0.95mm, Lead Span 2.8mm - Alternate Lead Configuration, IPC Medium Density)
footprint PLSP0003ZC-A_L (SOT23, 3-Leads, Body 2.9x1.5mm, Pitch 0.95mm, Lead Span 2.8mm - Alternate Lead Configuration, IPC High Density)
footprint PLSP0003ZC-A_M (SOT23, 3-Leads, Body 2.9x1.5mm, Pitch 0.95mm, Lead Span 2.8mm - Alternate Lead Configuration, IPC Low Density)
signal-integrity model HZM3.3NB
part A pins: 2 A, 3 K
part B pins: 1 NC

## HZM3.3NB1
designator D?
Silicon Epitaxial Planar Zener Diode for Stabilizer; Published: 12-Feb-2010; DatasheetVersion: Rev.5.00, Dec-2004; PackageVersion: Aug-2005; PackageReference: PLSP0003ZC-A; Publisher: Altium Limited; PackageDescription: 3-Pin Plastic SOT-23 Package 0.95 mm Pitch, 2.8 mm Lead Span - Alternate Lead Configuration (MPAK); Code_JEITA: SC-59A; ComponentLink1Description: Manufacturer Link; ComponentLink1URL: http://sg.renesas.com/fmwk.jsp?cnt=diode_landing.jsp&fp=/products/discrete/diodes/; ComponentLink2Description: Datasheet; ComponentLink2URL: http://documentation.renesas.com/eng/products/diode/rej03g0483_hzm_n.pdf; ComponentLink3Description: Packaging Specification; ComponentLink3URL: http://sg.renesas.com/media/products/common_info/package/pdf/diode/code/plsp0003zc_a.pdf
footprint PLSP0003ZC-A_N (SOT23, 3-Leads, Body 2.9x1.5mm, Pitch 0.95mm, Lead Span 2.8mm - Alternate Lead Configuration, IPC Medium Density)
footprint PLSP0003ZC-A_L (SOT23, 3-Leads, Body 2.9x1.5mm, Pitch 0.95mm, Lead Span 2.8mm - Alternate Lead Configuration, IPC High Density)
footprint PLSP0003ZC-A_M (SOT23, 3-Leads, Body 2.9x1.5mm, Pitch 0.95mm, Lead Span 2.8mm - Alternate Lead Configuration, IPC Low Density)
signal-integrity model HZM3.3NB1
part A pins: 2 A, 3 K
part B pins: 1 NC